# Altium schematic symbol library CR0805-FX-4700GLF.SchLib: 1 symbol
Pins are listed as number, name and electrical type; pins without a type are passive.

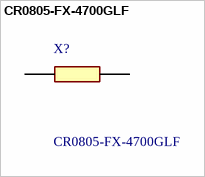
[diagram p0: symbol CR0805-FX-4700GLF]

## CR0805-FX-4700GLF
designator X?
SMD 0805 thick film resistor 470R 1% Bourns CR0805-FX Series Thick Film Surface Mount Fixed Resistor 0805 Case 470 +/-1% 0.125W +/-100ppm/C; Geometry.Height: 0.6mm; Mouser Part Number: 652-CR0805-FX4700GLF; Mouser Price/Stock: https://www.mouser.com/Search/Refine.aspx?Keyword=652-CR0805-FX4700GLF; Manufacturer_Name: Bourns; Manufacturer_Part_Number: CR0805-FX-4700GLF; Datasheet Link: https://componentsearchengine.com/Datasheets/1/CR0805-FX-4700GLF.pdf
footprint RESC2012X60N
pins: 1, 2